# Altium footprint library Thesis_Testboard_V1I1.PcbLib: 28 footprints (part 2 of 2)
Each footprint in its own frame and in the unit in brackets; x right, y up, seen from the top. Pads: shape width x height; smd on the part's side, far side on the other; paste and mask are expansions set on the pad; w line width, h text height; cw(c..) or ccw(c..) is an arc to the next point about the centre after c.
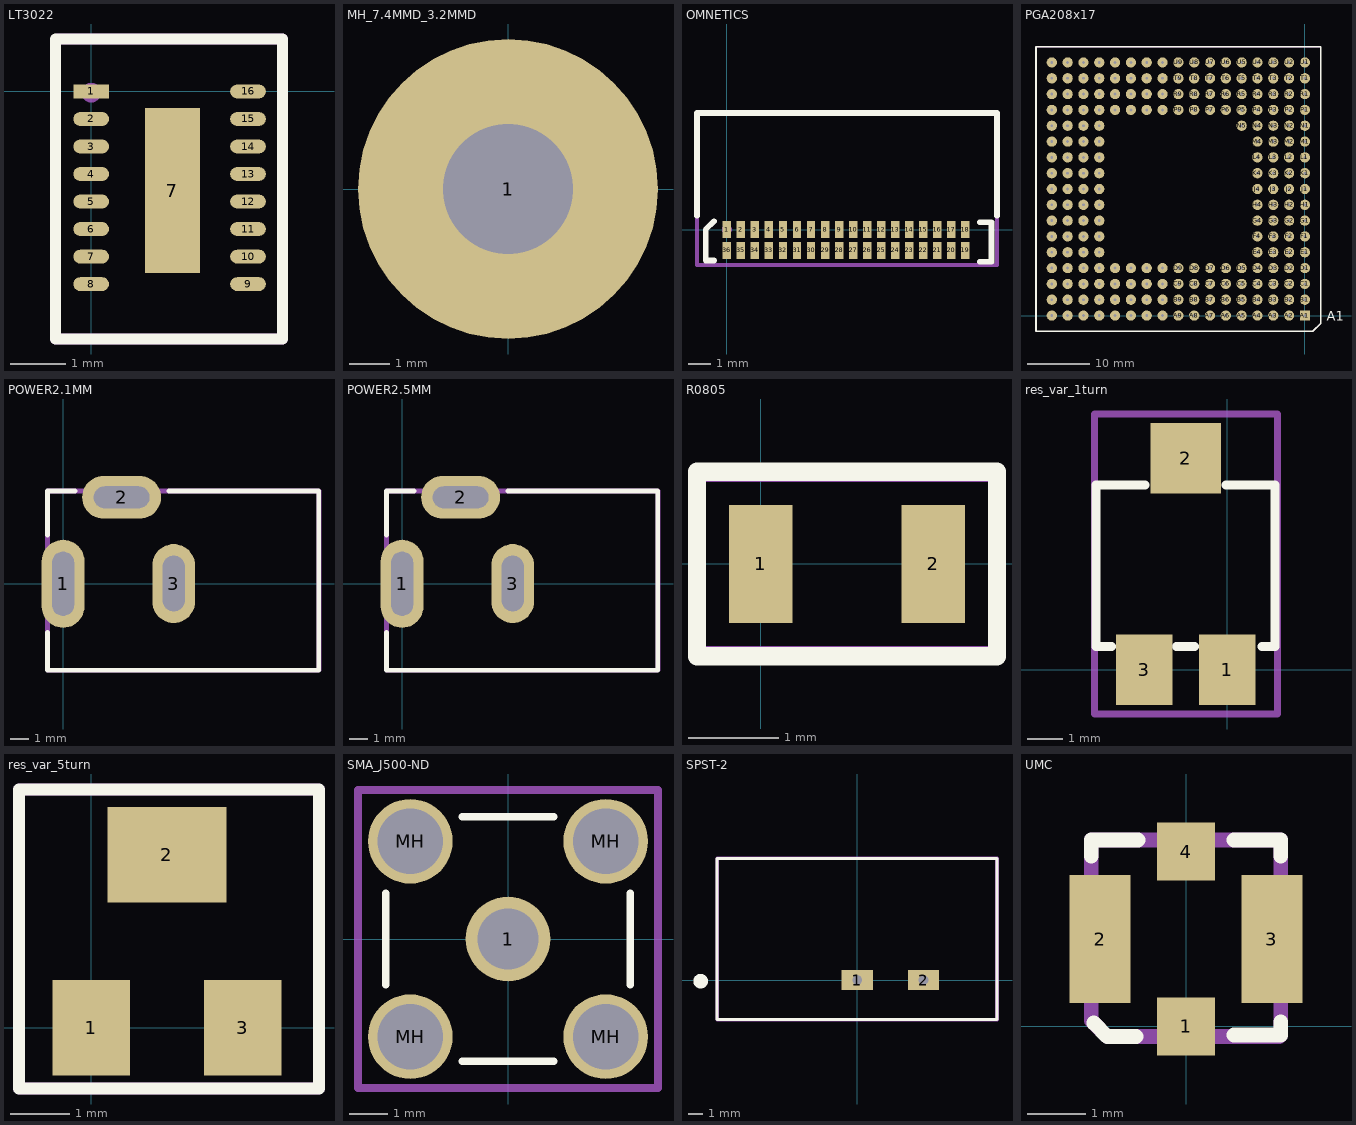
[diagram p1: the footprints below, top view; thin cyan lines are the x and y axes]

## LT3022 [mm]
pads (17):
  rect 0.65x0.25 smd: 1(0,0)
  oval 0.65x0.25 smd: 2(0,-0.5) 3(0,-1) 4(0,-1.5) 5(0,-2) 6(0,-2.5) 7(0,-3) 8(0,-3.5) 9(2.85,-3.5) 10(2.85,-3) 11(2.85,-2.5) 12(2.85,-2) 13(2.85,-1.5) 14(2.85,-1) 15(2.85,-0.5) 16(2.85,0)
  rect 1x3 smd: 7(1.475,-1.8)
Top Overlay:
  lines w0.2: -0.649,-4.497 -0.649,0.25 -0.649,0.953 3.476,0.953 3.476,0.25 3.476,-4.497 -0.649,-4.497
Mechanical 29:
  circle w0.254: c0.001,-0.022 r0.05
  lines w0.2: -0.649,-4.497 3.476,-4.497 3.476,0.953 -0.624,0.953 -0.649,0.928 -0.649,-4.497
  text ".Designator" at 0.305,-2.692 h1.52
3D body "DFN-16_DHC.step": height 0.8, standoff 0, extent -0.124,-4.297 2.976,0.803

## MH_7.4MMD_3.2MMD [mm]
pads (1):
  round 7.4 hole 3.2: 1(0,0)

## OMNETICS [mil]
pads (36):
  rect 15x30 smd: 1(0,0) 2(25,0) 3(50,0) 4(75,0) 5(100,0) 6(125,0) 7(150,0) 8(175,0) 9(200,0) 10(225,0) 11(250,0) 12(275,0) 13(300,0) 14(325,0) 15(350,0) 16(375,0) 17(400,0) 18(425,0) 19(425,-37) 20(400,-37) 21(375,-37) 22(350,-37) 23(325,-37) 24(300,-37) 25(275,-37) 26(250,-37) 27(225,-37) 28(200,-37) 29(175,-37) 30(150,-37) 31(125,-37) 32(100,-37) 33(75,-37) 34(50,-37) 35(25,-37) 36(0,-37)
Top Overlay:
  lines w10: -53.15,25 -53.15,207.68 481.3,207.68 481.3,25 ; -22.87,-55.08 -37.87,-55.08 -37.87,-0.08 -22.87,14.92 ; 450.83,-57.05 471.46,-57.05 471.46,12.95 450.83,12.95
Mechanical 29:
  circle w10: c0,0 r3.94
  lines w7.87: -53.15,206.69 -53.15,-62.99 481.3,-62.99 481.3,207.68 -52.17,207.68
  text ".Designator" at 122.05,72.83 h60
3D body "A79024-001.STEP": height 71, standoff 0.5, extent -44.9,-48.31 470.1,199.69

## PGA208x17 [mil]
pads (209):
  rect 65x65 hole 18: A1(0,0)
  round 65 hole 18: A2(-100,0) A3(-200,0) A4(-300,0) A5(-400,0) A6(-500,0) A7(-600,0) A8(-700,0) A9(-800,0) A10(-900,0) A11(-1000,0) A12(-1100,0) A13(-1200,0) A14(-1300,0) A15(-1400,0) A16(-1500,0) A17(-1600,0) B1(0,100) B2(-100,100) B3(-200,100) B4(-300,100) B5(-400,100) B6(-500,100) B7(-600,100) B8(-700,100) B9(-800,100) B10(-900,100) B11(-1000,100) B12(-1100,100) B13(-1200,100) B14(-1300,100) B15(-1400,100) B16(-1500,100) B17(-1600,100) C1(0,200) C2(-100,200) C3(-200,200) C4(-300,200) C5(-400,200) C6(-500,200) C7(-600,200) C8(-700,200) C9(-800,200) C10(-900,200) C11(-1000,200) C12(-1100,200) C13(-1200,200) C14(-1300,200) C15(-1400,200) C16(-1500,200) C17(-1600,200) D1(0,300) D2(-100,300) D3(-200,300) D4(-300,300) D5(-400,300) D6(-500,300) D7(-600,300) D8(-700,300) D9(-800,300) D10(-900,300) D11(-1000,300) D12(-1100,300) D13(-1200,300) D14(-1300,300) D15(-1400,300) D16(-1500,300) D17(-1600,300) E1(0,400) E2(-100,400) E3(-200,400) E4(-300,400) E14(-1300,400) E15(-1400,400) E16(-1500,400) E17(-1600,400) F1(0,500) F2(-100,500) F3(-200,500) F4(-300,500) F14(-1300,500) F15(-1400,500) F16(-1500,500) F17(-1600,500) G1(0,600) G2(-100,600) G3(-200,600) G4(-300,600) G14(-1300,600) G15(-1400,600) G16(-1500,600) G17(-1600,600) H1(0,700) H2(-100,700) H3(-200,700) H4(-300,700) H14(-1300,700) H15(-1400,700) H16(-1500,700) H17(-1600,700) J1(0,800) J2(-100,800) J3(-200,800) J4(-300,800) J14(-1300,800) J15(-1400,800) J16(-1500,800) J17(-1600,800) K1(0,900) K2(-100,900) K3(-200,900) K4(-300,900) K14(-1300,900) K15(-1400,900) K16(-1500,900) K17(-1600,900) L1(0,1000) L2(-100,1000) L3(-200,1000) L4(-300,1000) L14(-1300,1000) L15(-1400,1000) L16(-1500,1000) L17(-1600,1000) M1(0,1100) M2(-100,1100) M3(-200,1100) M4(-300,1100) M14(-1300,1100) M15(-1400,1100) M16(-1500,1100) M17(-1600,1100) N1(0,1200) N2(-100,1200) N3(-200,1200) N4(-300,1200) N5(-400,1200) N14(-1300,1200) N15(-1400,1200) N16(-1500,1200) N17(-1600,1200) P1(0,1300) P2(-100,1300) P3(-200,1300) P4(-300,1300) P5(-400,1300) P6(-500,1300) P7(-600,1300) P8(-700,1300) P9(-800,1300) P10(-900,1300) P11(-1000,1300) P12(-1100,1300) P13(-1200,1300) P14(-1300,1300) P15(-1400,1300) P16(-1500,1300) P17(-1600,1300) R1(0,1400) R2(-100,1400) R3(-200,1400) R4(-300,1400) R5(-400,1400) R6(-500,1400) R7(-600,1400) R8(-700,1400) R9(-800,1400) R10(-900,1400) R11(-1000,1400) R12(-1100,1400) R13(-1200,1400) R14(-1300,1400) R15(-1400,1400) R16(-1500,1400) R17(-1600,1400) T1(0,1500) T2(-100,1500) T3(-200,1500) T4(-300,1500) T5(-400,1500) T6(-500,1500) T7(-600,1500) T8(-700,1500) T9(-800,1500) T10(-900,1500) T11(-1000,1500) T12(-1100,1500) T13(-1200,1500) T14(-1300,1500) T15(-1400,1500) T16(-1500,1500) T17(-1600,1500) U1(0,1600) U2(-100,1600) U3(-200,1600) U4(-300,1600) U5(-400,1600) U6(-500,1600) U7(-600,1600) U8(-700,1600) U9(-800,1600) U10(-900,1600) U11(-1000,1600) U12(-1100,1600) U13(-1200,1600) U14(-1300,1600) U15(-1400,1600) U16(-1500,1600) U17(-1600,1600)
Top Overlay:
  lines w10: -1700,-100 -1700,1700 100,1700 100,-50 50,-100 -1700,-100
  text "A1" at 136.61,-31.5 h60
Mechanical 29:
  circle w27.56: c0,0 r13.78
  lines w7.87: -1699.8,1698.82 -1699.8,-99.41 49.21,-99.41 100.39,-48.23 100.39,1699.8 -1698.82,1699.8
  text ".Designator" at -916.34,703.74 h157.48

## POWER2.1MM [mil]
height 318.9
pads (3):
  oval 92x190 hole 47 slot 138 at 90 deg: 1(0,0)
  oval 170x92 hole 47 slot 120 at 0 deg: 2(126,186.17)
  oval 92x170 hole 47 slot 120 at 90 deg: 3(238.19,0.55)
Top Overlay:
  lines w10: -33.46,-104.33 -33.46,-186.02 551,-186.02 551,199.8 227.36,199.8 ; -33.46,104.33 -33.46,199.8 25.59,199.8
Mechanical 29:
  lines w10: -33.46,-186.02 551.18,-186.02 551.18,199.8 -33.46,199.8 -33.46,-186.02
  text ".Designator" at 110,-19 h60
3D body "CUI_PJ-002AH.step": height 433.57, standoff -137.29, extent -24.8,-178.35 542.12,191.73

## POWER2.5MM [mil]
height 318.9
pads (3):
  oval 92x190 hole 47 slot 138 at 90 deg: 1(0,0)
  oval 170x92 hole 47 slot 120 at 0 deg: 2(126,186.17)
  oval 92x170 hole 47 slot 120 at 90 deg: 3(238.19,0.55)
Top Overlay:
  lines w10: -33.46,-104.33 -33.46,-186.02 551,-186.02 551,199.8 227.36,199.8 ; -33.46,104.33 -33.46,199.8 25.59,199.8
Mechanical 29:
  lines w10: -33.46,-186.02 -33.46,199.8 551.18,199.8 551.18,-186.02 -33.46,-186.02
  text ".Designator" at 67,-27 h60
3D body "CUI_PJ-002BH.step": height 433.57, standoff -137.29, extent -24.6,-177.16 542.32,192.91

## R0805 [mm]
pads (2):
  rect 0.7x1.3 smd: 1(0,0) 2(1.9,0)
Top Overlay:
  lines w0.2: -0.701,-1.016 2.601,-1.016 2.601,1.016 -0.701,1.016 -0.701,-1.016
Mechanical 29:
  lines w0.2: -0.7,-1 -0.7,1 2.6,1 2.6,-1 -0.7,-1
  text ".Designator" at 0.381,-0.33 h0.8
3D body "User Library-Chip Resistor2.step": height 0.71, standoff 0.01, extent -0.05,-0.6 1.95,0.6

## res_var_1turn [mm]
pads (3):
  rect 1.6x2 smd: 1(0,0) 3(-2.35,0)
  rect 2x2 smd: 2(-1.175,6)
Top Overlay:
  lines w0.254: -3.271,0.666 -3.715,0.666 -3.715,5.238 -2.318,5.238 ; -1.429,0.666 -0.921,0.666 ; -0.032,5.238 1.365,5.238 1.365,0.666 0.984,0.666
Mechanical 29:
  circle w0.4: c0,-0.073 r0.2
  lines w0.2: -3.75,-1.248 -3.75,7.252 1.425,7.252 1.425,-1.248 -3.75,-1.248
  text ".Designator" at -1.325,2.752 h1.52
3D body "ST-4ETB2k_(202).stp": height 2.36, standoff 0.01, extent -3.675,-0.148 1.325,6.052

## res_var_5turn [mm]
pads (3):
  rect 1.3x1.6 smd: 1(0,0) 3(2.54,0)
  rect 2x1.6 smd: 2(1.27,2.9)
Top Overlay:
  lines w0.2: -1.21,-1.02 -1.21,3.99 3.82,3.99 3.82,-1.02 -1.21,-1.02
Mechanical 29:
  circle w0.4: c2.54,-0.073 r0.2
  lines w0.2: -1.21,-1.02 3.82,-1.02 3.82,3.99 -1.21,3.99 -1.21,-1.02
  text ".Designator" at -0.61,0.991 h1.52
3D body "SM-43TW2k_(202).stp": height 5.31, standoff 0.01, extent -1.1,-0.52 3.7,3.38

## SMA_J500-ND [mm] "J500-ND"
height 9.5
pads (5):
  round 2.2 hole 1.575: 1(0,0)
  round 2.2 hole 1.702: MH(-2.54,-2.54) MH(-2.54,2.54) MH(2.54,-2.54) MH(2.54,2.54)
Top Overlay:
  lines w0.2: -3.175,-1.181 -3.175,1.181 ; -1.181,-3.175 1.181,-3.175 ; -1.181,3.175 1.181,3.175 ; 3.175,-1.181 3.175,1.181
Mechanical 29:
  lines w0.2: -3.9,-3.875 3.9,-3.875 3.9,3.875 -3.9,3.875 -3.9,-3.875
  text ".Designator" at -1.372,-0.737 h1.52
3D body "32k101-400l5.stp": height 9.5, standoff -4, extent -3.175,-3.175 3.175,3.175

## SPST-2 [mil] "Switch; 2 Leads"
pads (2):
  rect 85x55 hole 27 square: 1(0,0) 2(181,0)
Top Overlay:
  circle w20: c-427,-3 r10
  lines w7.87: -382,-108 381,-108 381,332 -382,332 -382,-108
Mechanical 29:
  lines w10: -382,-108 381,-108 381,332 -382,332 -382,-108
  text ".Designator" at -26,74 h60
3D body "L101011MS02Q.stp": height 554.01, standoff -165.5, extent -377.29,-102.29 375.71,326.71

## UMC [mm]
height 8.1
pads (4):
  rect 1x1 smd: 1(0,0) 4(0,3)
  rect 1.05x2.2 smd: 2(-1.475,1.5) 3(1.475,1.5)
Top Overlay:
  lines w0.254: -1.625,2.925 -1.625,3.2 -0.825,3.2 ; -1.585,0.06 -1.35,-0.175 -0.86,-0.175 ; 0.825,-0.15 1.625,-0.15 1.625,0.075 ; 0.825,3.2 1.625,3.2 1.625,2.925
Mechanical 29:
  lines w0.254: -1.625,0.1 -1.625,3.2 1.625,3.2 1.625,-0.15 1.6,-0.175 -1.35,-0.175 -1.625,0.1
  text ".Designator" at -1.175,1.225 h0.7
3D body "734120110.stp": height 1.3, standoff 0, extent -1.5,-0.015 1.5,3.065